# Altium integrated library NSC Switcher.IntLib: 2027 symbols (part 54 of 54)
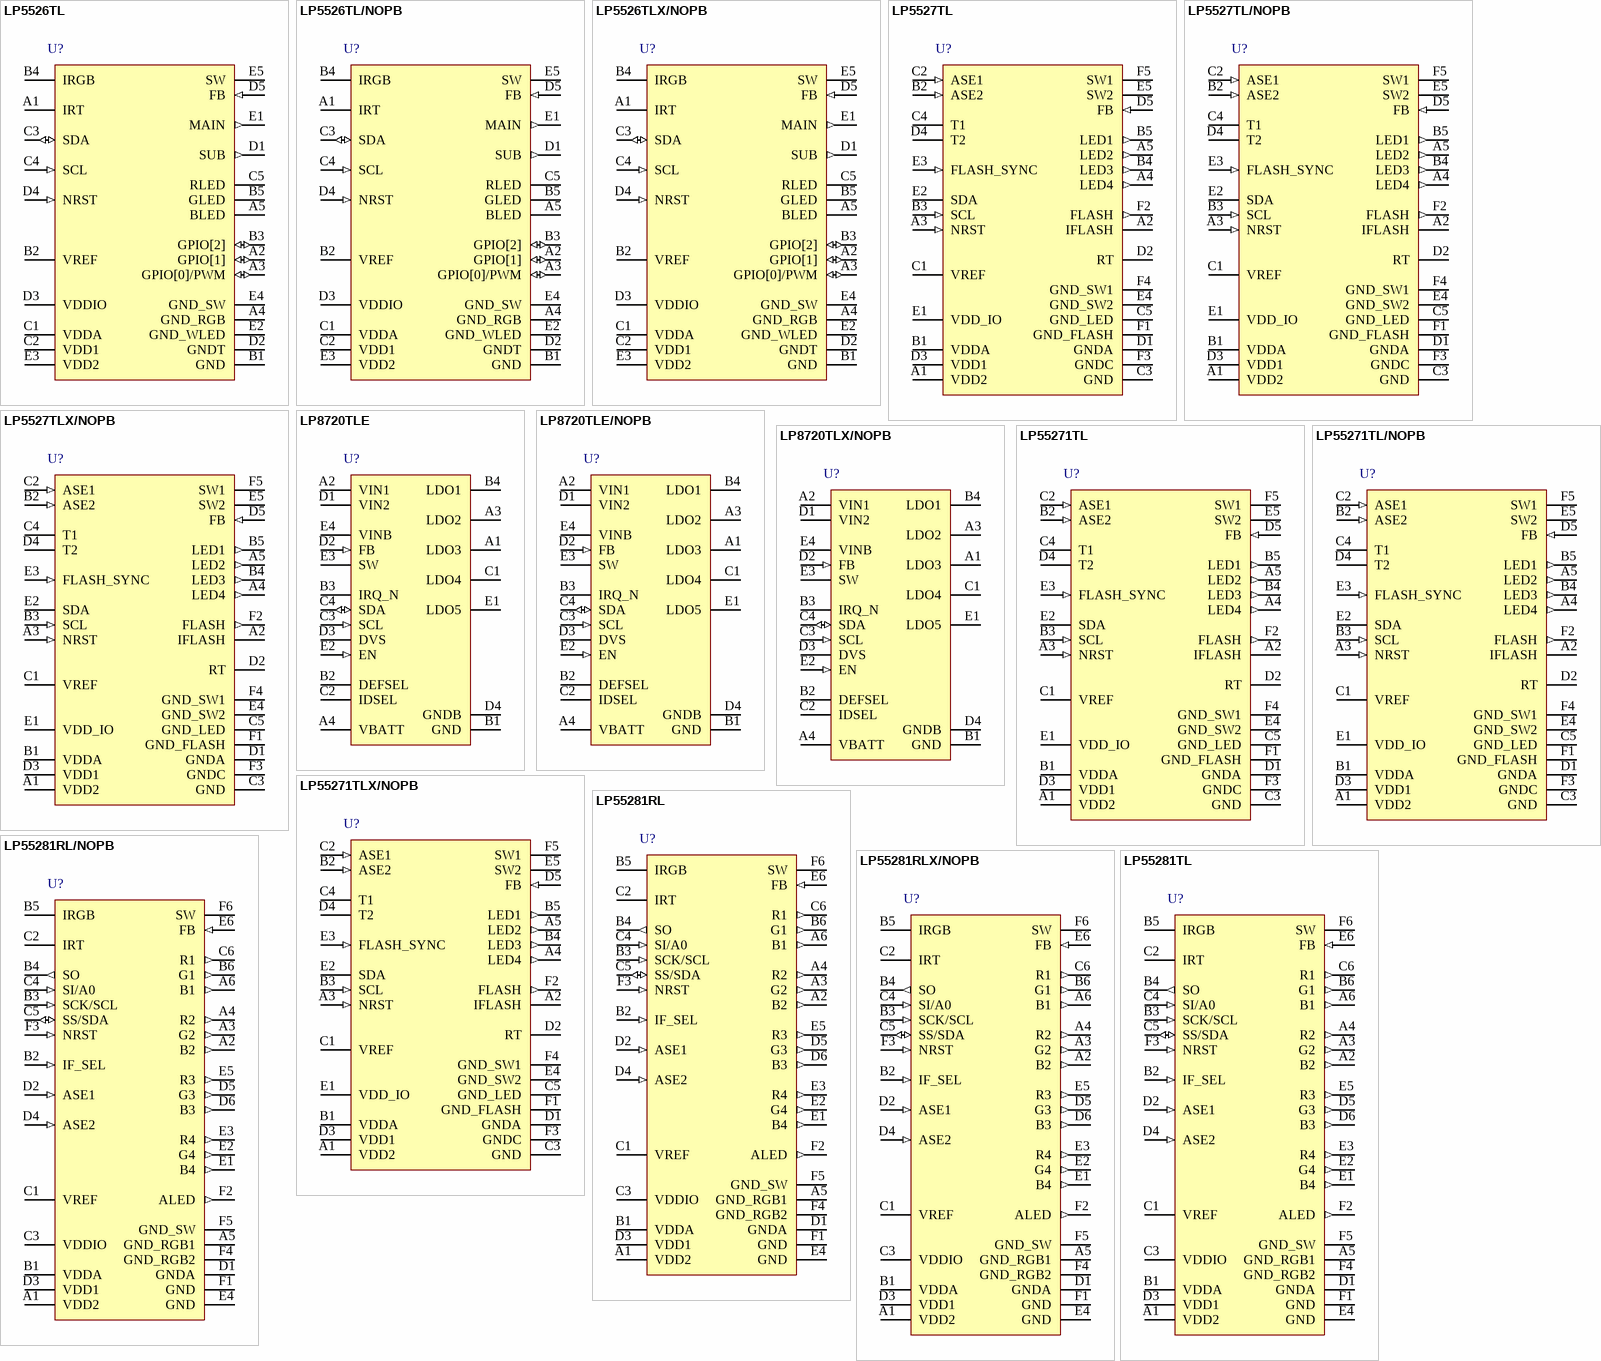
[diagram p116: symbols LP5526TL to LP55281TL]

## LP5526TLX/NOPB
designator U?
Lighting Management Unit with High Voltage Boost Converter with up to 150mA Serial FLASH LED Driver, 25-pin Micro SMD, Pb-Free; PartNumber: LP5526TLX/NOPB; Manufacturer: National Semiconductor; PackageTopMarking: XYTT*I 5526; PowerWise: Y; CompType: Switcher; Published: 1-Mar-2010; DatasheetVersion: Mar-2006; PackageVersion: revD, Dec-2003; PackageReference: TLA25CCA; Publisher: Altium Limited; PackageDescription: Thin Micro SMD, 25 Bump (Large), 0.5mm Pitch; Supplier 1: Digi-Key; Supplier Part Number 1: LP5526TLX-ND; RoHS: Y; PinCount: 25; Code_JEDEC: MO-211-DH; ComponentLink1Description: LP5526 Datasheet; ComponentLink1URL: http://www.national.com/ds/LP/LP5526.pdf; ComponentLink2Description: LP5526 Web Page; ComponentLink2URL: http://www.national.com/pf/LP/LP5526.html; ComponentLink3Description: TLA25CCA Package Page; ComponentLink3URL: http://www.national.com/packaging/folders/tla25cca.html
footprint TLA25CCA (Micro SMD, 25-Leads, Body 2.54x2.54mm, Pitch 0.5mm, NSC Recommended)
pins: A1 IRT, A2 GPIO[1] (io), A3 GPIO[0]/PWM (io), A4 GND_RGB (power), A5 BLED (oc), B1 GND (power), B2 VREF, B3 GPIO[2] (io), B4 IRGB, B5 GLED (oc), C1 VDDA (power), C2 VDD1 (power), C3 SDA (io), C4 SCL (in), C5 RLED (oc), D1 SUB (out), D2 GNDT (power), D3 VDDIO (power), D4 NRST (in), D5 FB (in), E1 MAIN (out), E2 GND_WLED (power), E3 VDD2 (power), E4 GND_SW (power), E5 SW (power)

## LP5527TL
designator U?
Tiny LED Driver for Camera Flash and 4 LEDs with I2C Programmability, Connectivity Test and Audio Synchronization, 30-pin Micro SMD; PartNumber: LP5527TL; Manufacturer: National Semiconductor; PackageTopMarking: XYTT*I 5527; PowerWise: Y; CompType: Switcher; Published: 4-Dec-2008; DatasheetVersion: May-2006; PackageVersion: revC, Dec-2003; PackageReference: TLA3011A; Publisher: Altium Limited; PackageDescription: Thin Micro SMD, 30 Bump (Large), 0.5mm Pitch; Supplier 1: Farnell; Supplier Part Number 1: 1286806; RoHS: Y; PinCount: 30; Code_JEDEC: MO-211-DJ; ComponentLink1Description: LP5527 Datasheet; ComponentLink1URL: http://www.national.com/ds/LP/LP5527.pdf; ComponentLink2Description: LP5527 Web Page; ComponentLink2URL: http://www.national.com/pf/LP/LP5527.html; ComponentLink3Description: TLA3011A Package Page; ComponentLink3URL: http://www.national.com/packaging/folders/tla3011a.html
footprint TLA3011A (Micro SMD, 30-Leads, Body 2.97x2.47mm, Pitch 0.5mm, NSC Recommended)
pins: A1 VDD2 (power), A2 IFLASH, A3 NRST (in), A4 LED4 (out), A5 LED2 (out), B1 VDDA (power), B2 ASE2 (in), B3 SCL (in), B4 LED3 (out), B5 LED1 (out), C1 VREF, C2 ASE1 (in), C3 GND (power), C4 T1, C5 GND_LED (power), D1 GNDA (power), D2 RT, D3 VDD1 (power), D4 T2, D5 FB (in), E1 VDD_IO (power), E2 SDA (oc), E3 FLASH_SYNC (in), E4 GND_SW2 (power), E5 SW2 (power), F1 GND_FLASH (power), F2 FLASH (out), F3 GNDC (power), F4 GND_SW1 (power), F5 SW1 (power)

## LP5527TL/NOPB
designator U?
Tiny LED Driver for Camera Flash and 4 LEDs with I2C Programmability, Connectivity Test and Audio Synchronization, 30-pin Micro SMD, Pb-Free; PartNumber: LP5527TL/NOPB; Manufacturer: National Semiconductor; PackageTopMarking: XYTT*I 5527; PowerWise: Y; CompType: Switcher; Published: 1-Mar-2010; DatasheetVersion: May-2006; PackageVersion: revC, Dec-2003; PackageReference: TLA3011A; Publisher: Altium Limited; PackageDescription: Thin Micro SMD, 30 Bump (Large), 0.5mm Pitch; Supplier 1: Digi-Key; Supplier Part Number 1: LP5527TLTR-ND; Supplier 2: Digi-Key; Supplier Part Number 2: LP5527TLCT-ND; Supplier 3: Digi-Key; Supplier Part Number 3: LP5527TLDKR-ND; RoHS: Y; PinCount: 30; Code_JEDEC: MO-211-DJ; ComponentLink1Description: LP5527 Datasheet; ComponentLink1URL: http://www.national.com/ds/LP/LP5527.pdf; ComponentLink2Description: LP5527 Web Page; ComponentLink2URL: http://www.national.com/pf/LP/LP5527.html; ComponentLink3Description: TLA3011A Package Page; ComponentLink3URL: http://www.national.com/packaging/folders/tla3011a.html
footprint TLA3011A (Micro SMD, 30-Leads, Body 2.97x2.47mm, Pitch 0.5mm, NSC Recommended)
pins: A1 VDD2 (power), A2 IFLASH, A3 NRST (in), A4 LED4 (out), A5 LED2 (out), B1 VDDA (power), B2 ASE2 (in), B3 SCL (in), B4 LED3 (out), B5 LED1 (out), C1 VREF, C2 ASE1 (in), C3 GND (power), C4 T1, C5 GND_LED (power), D1 GNDA (power), D2 RT, D3 VDD1 (power), D4 T2, D5 FB (in), E1 VDD_IO (power), E2 SDA (oc), E3 FLASH_SYNC (in), E4 GND_SW2 (power), E5 SW2 (power), F1 GND_FLASH (power), F2 FLASH (out), F3 GNDC (power), F4 GND_SW1 (power), F5 SW1 (power)

## LP5527TLX/NOPB
designator U?
Tiny LED Driver for Camera Flash and 4 LEDs with I2C Programmability, Connectivity Test and Audio Synchronization, 30-pin Micro SMD, Pb-Free; PartNumber: LP5527TLX/NOPB; Manufacturer: National Semiconductor; PackageTopMarking: XYTT*I 5527; PowerWise: Y; CompType: Switcher; Published: 1-Mar-2010; DatasheetVersion: May-2006; PackageVersion: revC, Dec-2003; PackageReference: TLA3011A; Publisher: Altium Limited; PackageDescription: Thin Micro SMD, 30 Bump (Large), 0.5mm Pitch; Supplier 1: Digi-Key; Supplier Part Number 1: LP5527TLX-ND; RoHS: Y; PinCount: 30; Code_JEDEC: MO-211-DJ; ComponentLink1Description: LP5527 Datasheet; ComponentLink1URL: http://www.national.com/ds/LP/LP5527.pdf; ComponentLink2Description: LP5527 Web Page; ComponentLink2URL: http://www.national.com/pf/LP/LP5527.html; ComponentLink3Description: TLA3011A Package Page; ComponentLink3URL: http://www.national.com/packaging/folders/tla3011a.html
footprint TLA3011A (Micro SMD, 30-Leads, Body 2.97x2.47mm, Pitch 0.5mm, NSC Recommended)
pins: A1 VDD2 (power), A2 IFLASH, A3 NRST (in), A4 LED4 (out), A5 LED2 (out), B1 VDDA (power), B2 ASE2 (in), B3 SCL (in), B4 LED3 (out), B5 LED1 (out), C1 VREF, C2 ASE1 (in), C3 GND (power), C4 T1, C5 GND_LED (power), D1 GNDA (power), D2 RT, D3 VDD1 (power), D4 T2, D5 FB (in), E1 VDD_IO (power), E2 SDA (oc), E3 FLASH_SYNC (in), E4 GND_SW2 (power), E5 SW2 (power), F1 GND_FLASH (power), F2 FLASH (out), F3 GNDC (power), F4 GND_SW1 (power), F5 SW1 (power)

## LP8720TLE
designator U?
One Step-Down DC/DC and Five Linear Regulators with I2C Compatible Interface, 20-pin Micro SMD; PartNumber: LP8720TLE; Manufacturer: National Semiconductor; PackageTopMarking: XYTT*I 8720; PowerWise: N; CompType: Switcher; Published: 4-Dec-2008; DatasheetVersion: Jul-2008; PackageVersion: revC, Jan-2004; PackageReference: TLA2011A; Publisher: Altium Limited; PackageDescription: Thin Micro SMD, 20 Bump (Large), 0.5mm Pitch; RoHS: Y; PinCount: 20; Code_JEDEC: MO-211-DG; ComponentLink1Description: LP8720 Datasheet; ComponentLink1URL: http://www.national.com/ds/LP/LP8720.pdf; ComponentLink2Description: LP8720 Web Page; ComponentLink2URL: http://www.national.com/pf/LP/LP8720.html; ComponentLink3Description: TLA2011A Package Page; ComponentLink3URL: http://www.national.com/packaging/folders/tla2011a.html
footprint TLA2011A (Micro SMD, 20-Leads, Body 2.47x1.97mm, Pitch 0.5mm, NSC Recommended)
pins: A1 LDO3 (power), A2 VIN1 (power), A3 LDO2 (power), A4 VBATT (power), B1 GND (power), B2 DEFSEL, B3 IRQ_N, B4 LDO1 (power), C1 LDO4 (power), C2 IDSEL, C3 SCL (in), C4 SDA (io), D1 VIN2 (power), D2 FB (in), D3 DVS, D4 GNDB (power), E1 LDO5 (power), E2 EN (in), E3 SW (power), E4 VINB (power)

## LP8720TLE/NOPB
designator U?
One Step-Down DC/DC and Five Linear Regulators with I2C Compatible Interface, 20-pin Micro SMD, Pb-Free; PartNumber: LP8720TLE/NOPB; Manufacturer: National Semiconductor; PackageTopMarking: XYTT*I 8720; PowerWise: N; CompType: Switcher; Published: 1-Mar-2010; DatasheetVersion: Jul-2008; PackageVersion: revC, Jan-2004; PackageReference: TLA2011A; Publisher: Altium Limited; PackageDescription: Thin Micro SMD, 20 Bump (Large), 0.5mm Pitch; Supplier 1: Digi-Key; Supplier Part Number 1: LP8720TLETR-ND; Supplier 2: Digi-Key; Supplier Part Number 2: LP8720TLECT-ND; Supplier 3: Digi-Key; Supplier Part Number 3: LP8720TLEDKR-ND; RoHS: Y; PinCount: 20; Code_JEDEC: MO-211-DG; ComponentLink1Description: LP8720 Datasheet; ComponentLink1URL: http://www.national.com/ds/LP/LP8720.pdf; ComponentLink2Description: LP8720 Web Page; ComponentLink2URL: http://www.national.com/pf/LP/LP8720.html; ComponentLink3Description: TLA2011A Package Page; ComponentLink3URL: http://www.national.com/packaging/folders/tla2011a.html
footprint TLA2011A (Micro SMD, 20-Leads, Body 2.47x1.97mm, Pitch 0.5mm, NSC Recommended)
pins: A1 LDO3 (power), A2 VIN1 (power), A3 LDO2 (power), A4 VBATT (power), B1 GND (power), B2 DEFSEL, B3 IRQ_N, B4 LDO1 (power), C1 LDO4 (power), C2 IDSEL, C3 SCL (in), C4 SDA (io), D1 VIN2 (power), D2 FB (in), D3 DVS, D4 GNDB (power), E1 LDO5 (power), E2 EN (in), E3 SW (power), E4 VINB (power)

## LP8720TLX/NOPB
designator U?
One Step-Down DC/DC and Five Linear Regulators with I2C Compatible Interface, 20-pin Micro SMD, Pb-Free; PartNumber: LP8720TLX/NOPB; Manufacturer: National Semiconductor; PackageTopMarking: XYTT*I 8720; PowerWise: N; CompType: Switcher; Published: 1-Mar-2010; DatasheetVersion: Jul-2008; PackageVersion: revC, Jan-2004; PackageReference: TLA2011A; Publisher: Altium Limited; PackageDescription: Thin Micro SMD, 20 Bump (Large), 0.5mm Pitch; Supplier 1: Digi-Key; Supplier Part Number 1: LP8720TLX-ND; RoHS: Y; PinCount: 20; Code_JEDEC: MO-211-DG; ComponentLink1Description: LP8720 Datasheet; ComponentLink1URL: http://www.national.com/ds/LP/LP8720.pdf; ComponentLink2Description: LP8720 Web Page; ComponentLink2URL: http://www.national.com/pf/LP/LP8720.html; ComponentLink3Description: TLA2011A Package Page; ComponentLink3URL: http://www.national.com/packaging/folders/tla2011a.html
footprint TLA2011A (Micro SMD, 20-Leads, Body 2.47x1.97mm, Pitch 0.5mm, NSC Recommended)
pins: A1 LDO3 (power), A2 VIN1 (power), A3 LDO2 (power), A4 VBATT (power), B1 GND (power), B2 DEFSEL, B3 IRQ_N, B4 LDO1 (power), C1 LDO4 (power), C2 IDSEL, C3 SCL (in), C4 SDA (io), D1 VIN2 (power), D2 FB (in), D3 DVS, D4 GNDB (power), E1 LDO5 (power), E2 EN (in), E3 SW (power), E4 VINB (power)

## LP55271TL
designator U?
Tiny LED Driver for Camera Flash and 4 LEDs with I2C Programmability, Connectivity Test and Audio Synchronization, 30-pin Micro SMD; PartNumber: LP55271TL; Manufacturer: National Semiconductor; PackageTopMarking: XYTT*I D55B; PowerWise: Y; CompType: Switcher; Published: 4-Dec-2008; DatasheetVersion: Sep-2006; PackageVersion: revC, Dec-2003; PackageReference: TLA3011A; Publisher: Altium Limited; PackageDescription: Thin Micro SMD, 30 Bump (Large), 0.5mm Pitch; RoHS: Y; PinCount: 30; Code_JEDEC: MO-211-DJ; ComponentLink1Description: LP55271 Datasheet; ComponentLink1URL: http://www.national.com/ds/LP/LP55271.pdf; ComponentLink2Description: LP55271 Web Page; ComponentLink2URL: http://www.national.com/pf/LP/LP55271.html; ComponentLink3Description: TLA3011A Package Page; ComponentLink3URL: http://www.national.com/packaging/folders/tla3011a.html
footprint TLA3011A (Micro SMD, 30-Leads, Body 2.97x2.47mm, Pitch 0.5mm, NSC Recommended)
pins: A1 VDD2 (power), A2 IFLASH, A3 NRST (in), A4 LED4 (out), A5 LED2 (out), B1 VDDA (power), B2 ASE2 (in), B3 SCL (in), B4 LED3 (out), B5 LED1 (out), C1 VREF, C2 ASE1 (in), C3 GND (power), C4 T1, C5 GND_LED (power), D1 GNDA (power), D2 RT, D3 VDD1 (power), D4 T2, D5 FB (in), E1 VDD_IO (power), E2 SDA (oc), E3 FLASH_SYNC (in), E4 GND_SW2 (power), E5 SW2 (power), F1 GND_FLASH (power), F2 FLASH (out), F3 GNDC (power), F4 GND_SW1 (power), F5 SW1 (power)

## LP55271TL/NOPB
designator U?
Tiny LED Driver for Camera Flash and 4 LEDs with I2C Programmability, Connectivity Test and Audio Synchronization, 30-pin Micro SMD, Pb-Free; PartNumber: LP55271TL/NOPB; Manufacturer: National Semiconductor; PackageTopMarking: XYTT*I D55B; PowerWise: Y; CompType: Switcher; Published: 1-Mar-2010; DatasheetVersion: Sep-2006; PackageVersion: revC, Dec-2003; PackageReference: TLA3011A; Publisher: Altium Limited; PackageDescription: Thin Micro SMD, 30 Bump (Large), 0.5mm Pitch; Supplier 1: Digi-Key; Supplier Part Number 1: LP55271TLTR-ND; Supplier 2: Digi-Key; Supplier Part Number 2: LP55271TLCT-ND; Supplier 3: Digi-Key; Supplier Part Number 3: LP55271TLDKR-ND; RoHS: Y; PinCount: 30; Code_JEDEC: MO-211-DJ; ComponentLink1Description: LP55271 Datasheet; ComponentLink1URL: http://www.national.com/ds/LP/LP55271.pdf; ComponentLink2Description: LP55271 Web Page; ComponentLink2URL: http://www.national.com/pf/LP/LP55271.html; ComponentLink3Description: TLA3011A Package Page; ComponentLink3URL: http://www.national.com/packaging/folders/tla3011a.html
footprint TLA3011A (Micro SMD, 30-Leads, Body 2.97x2.47mm, Pitch 0.5mm, NSC Recommended)
pins: A1 VDD2 (power), A2 IFLASH, A3 NRST (in), A4 LED4 (out), A5 LED2 (out), B1 VDDA (power), B2 ASE2 (in), B3 SCL (in), B4 LED3 (out), B5 LED1 (out), C1 VREF, C2 ASE1 (in), C3 GND (power), C4 T1, C5 GND_LED (power), D1 GNDA (power), D2 RT, D3 VDD1 (power), D4 T2, D5 FB (in), E1 VDD_IO (power), E2 SDA (oc), E3 FLASH_SYNC (in), E4 GND_SW2 (power), E5 SW2 (power), F1 GND_FLASH (power), F2 FLASH (out), F3 GNDC (power), F4 GND_SW1 (power), F5 SW1 (power)

## LP55271TLX/NOPB
designator U?
Tiny LED Driver for Camera Flash and 4 LEDs with I2C Programmability, Connectivity Test and Audio Synchronization, 30-pin Micro SMD, Pb-Free; PartNumber: LP55271TLX/NOPB; Manufacturer: National Semiconductor; PackageTopMarking: XYTT*I D55B; PowerWise: Y; CompType: Switcher; Published: 1-Mar-2010; DatasheetVersion: Sep-2006; PackageVersion: revC, Dec-2003; PackageReference: TLA3011A; Publisher: Altium Limited; PackageDescription: Thin Micro SMD, 30 Bump (Large), 0.5mm Pitch; Supplier 1: Digi-Key; Supplier Part Number 1: LP55271TLX-ND; RoHS: Y; PinCount: 30; Code_JEDEC: MO-211-DJ; ComponentLink1Description: LP55271 Datasheet; ComponentLink1URL: http://www.national.com/ds/LP/LP55271.pdf; ComponentLink2Description: LP55271 Web Page; ComponentLink2URL: http://www.national.com/pf/LP/LP55271.html; ComponentLink3Description: TLA3011A Package Page; ComponentLink3URL: http://www.national.com/packaging/folders/tla3011a.html
footprint TLA3011A (Micro SMD, 30-Leads, Body 2.97x2.47mm, Pitch 0.5mm, NSC Recommended)
pins: A1 VDD2 (power), A2 IFLASH, A3 NRST (in), A4 LED4 (out), A5 LED2 (out), B1 VDDA (power), B2 ASE2 (in), B3 SCL (in), B4 LED3 (out), B5 LED1 (out), C1 VREF, C2 ASE1 (in), C3 GND (power), C4 T1, C5 GND_LED (power), D1 GNDA (power), D2 RT, D3 VDD1 (power), D4 T2, D5 FB (in), E1 VDD_IO (power), E2 SDA (oc), E3 FLASH_SYNC (in), E4 GND_SW2 (power), E5 SW2 (power), F1 GND_FLASH (power), F2 FLASH (out), F3 GNDC (power), F4 GND_SW1 (power), F5 SW1 (power)

## LP55281RL
designator U?
Quad RGB Driver, 36-pin Micro SMDXT; PartNumber: LP55281RL; Manufacturer: National Semiconductor; PackageTopMarking: XYTT*I D61B; PowerWise: Y; CompType: Switcher; Published: 4-Dec-2008; DatasheetVersion: Jun-2007; PackageVersion: Aug-2007; PackageReference: RLA36AAA; Publisher: Altium Limited; PackageDescription: Micro SMDxt, 36 Bump (Large), 0.5mm Pitch; RoHS: Y; PinCount: 36; ComponentLink1Description: LP55281 Datasheet; ComponentLink1URL: http://www.national.com/ds/LP/LP55281.pdf; ComponentLink2Description: LP55281 Web Page; ComponentLink2URL: http://www.national.com/pf/LP/LP55281.html
footprint RLA36AAA (Micro SMD, 36-Leads, Body 3x3mm, Pitch 0.5mm, NSC Recommended)
pins: A1 VDD2 (power), A2 B2 (out), A3 G2 (out), A4 R2 (out), A5 GND_RGB1 (power), A6 B1 (out), B1 VDDA (power), B2 IF_SEL (in), B3 SCK/SCL (in), B4 SO (out), B5 IRGB, B6 G1 (out), C1 VREF, C2 IRT, C3 VDDIO (power), C4 SI/A0 (in), C5 SS/SDA (io), C6 R1 (out), D1 GNDA (power), D2 ASE1 (in), D3 VDD1 (power), D4 ASE2 (in), D5 G3 (out), D6 B3 (out), E1 B4 (out), E2 G4 (out), E3 R4 (out), E4 GND (power), E5 R3 (out), E6 FB (in), F1 GND (power), F2 ALED (out), F3 NRST (in), F4 GND_RGB2 (power), F5 GND_SW (power), F6 SW (power)

## LP55281RL/NOPB
designator U?
Quad RGB Driver, 36-pin Micro SMDXT, Pb-Free; PartNumber: LP55281RL/NOPB; Manufacturer: National Semiconductor; PackageTopMarking: XYTT*I D61B; PowerWise: Y; CompType: Switcher; Published: 1-Mar-2010; DatasheetVersion: Jun-2007; PackageVersion: Aug-2007; PackageReference: RLA36AAA; Publisher: Altium Limited; PackageDescription: Micro SMDxt, 36 Bump (Large), 0.5mm Pitch; Supplier 1: Digi-Key; Supplier Part Number 1: LP55281RLTR-ND; Supplier 2: Digi-Key; Supplier Part Number 2: LP55281RLCT-ND; Supplier 3: Digi-Key; Supplier Part Number 3: LP55281RLDKR-ND; RoHS: Y; PinCount: 36; ComponentLink1Description: LP55281 Datasheet; ComponentLink1URL: http://www.national.com/ds/LP/LP55281.pdf; ComponentLink2Description: LP55281 Web Page; ComponentLink2URL: http://www.national.com/pf/LP/LP55281.html; ComponentLink3Description: RLA36AAA Package Page; ComponentLink3URL: http://www.national.com/packaging/folders/rla36aaa.html
footprint RLA36AAA (Micro SMD, 36-Leads, Body 3x3mm, Pitch 0.5mm, NSC Recommended)
pins: A1 VDD2 (power), A2 B2 (out), A3 G2 (out), A4 R2 (out), A5 GND_RGB1 (power), A6 B1 (out), B1 VDDA (power), B2 IF_SEL (in), B3 SCK/SCL (in), B4 SO (out), B5 IRGB, B6 G1 (out), C1 VREF, C2 IRT, C3 VDDIO (power), C4 SI/A0 (in), C5 SS/SDA (io), C6 R1 (out), D1 GNDA (power), D2 ASE1 (in), D3 VDD1 (power), D4 ASE2 (in), D5 G3 (out), D6 B3 (out), E1 B4 (out), E2 G4 (out), E3 R4 (out), E4 GND (power), E5 R3 (out), E6 FB (in), F1 GND (power), F2 ALED (out), F3 NRST (in), F4 GND_RGB2 (power), F5 GND_SW (power), F6 SW (power)

## LP55281RLX/NOPB
designator U?
Quad RGB Driver, 36-pin Micro SMDXT, Pb-Free; PartNumber: LP55281RLX/NOPB; Manufacturer: National Semiconductor; PackageTopMarking: XYTT*I D61B; PowerWise: Y; CompType: Switcher; Published: 1-Mar-2010; DatasheetVersion: Jun-2007; PackageVersion: Aug-2007; PackageReference: RLA36AAA; Publisher: Altium Limited; PackageDescription: Micro SMDxt, 36 Bump (Large), 0.5mm Pitch; Supplier 1: Digi-Key; Supplier Part Number 1: LP55281RLX-ND; RoHS: Y; PinCount: 36; ComponentLink1Description: LP55281 Datasheet; ComponentLink1URL: http://www.national.com/ds/LP/LP55281.pdf; ComponentLink2Description: LP55281 Web Page; ComponentLink2URL: http://www.national.com/pf/LP/LP55281.html; ComponentLink3Description: RLA36AAA Package Page; ComponentLink3URL: http://www.national.com/packaging/folders/rla36aaa.html
footprint RLA36AAA (Micro SMD, 36-Leads, Body 3x3mm, Pitch 0.5mm, NSC Recommended)
pins: A1 VDD2 (power), A2 B2 (out), A3 G2 (out), A4 R2 (out), A5 GND_RGB1 (power), A6 B1 (out), B1 VDDA (power), B2 IF_SEL (in), B3 SCK/SCL (in), B4 SO (out), B5 IRGB, B6 G1 (out), C1 VREF, C2 IRT, C3 VDDIO (power), C4 SI/A0 (in), C5 SS/SDA (io), C6 R1 (out), D1 GNDA (power), D2 ASE1 (in), D3 VDD1 (power), D4 ASE2 (in), D5 G3 (out), D6 B3 (out), E1 B4 (out), E2 G4 (out), E3 R4 (out), E4 GND (power), E5 R3 (out), E6 FB (in), F1 GND (power), F2 ALED (out), F3 NRST (in), F4 GND_RGB2 (power), F5 GND_SW (power), F6 SW (power)

## LP55281TL
designator U?
Quad RGB Driver, 36-pin Micro SMD; PartNumber: LP55281TL; Manufacturer: National Semiconductor; PackageTopMarking: XYTT*I D56B; PowerWise: Y; CompType: Switcher; Published: 4-Dec-2008; DatasheetVersion: Jun-2007; PackageVersion: revC, Dec-2003; PackageReference: TLA36AAA; Publisher: Altium Limited; PackageDescription: Thin Micro SMD, 36 Bump (Large), 0.5mm Pitch; RoHS: Y; PinCount: 36; Code_JEDEC: MO-211-DK; ComponentLink1Description: LP55281 Datasheet; ComponentLink1URL: http://www.national.com/ds/LP/LP55281.pdf; ComponentLink2Description: LP55281 Web Page; ComponentLink2URL: http://www.national.com/pf/LP/LP55281.html; ComponentLink3Description: TLA36AAA Package Page; ComponentLink3URL: http://www.national.com/packaging/folders/tla36aaa.html
footprint TLA36AAA (Micro SMD, 36-Leads, Body 3x3mm, Pitch 0.5mm, NSC Recommended)
pins: A1 VDD2 (power), A2 B2 (out), A3 G2 (out), A4 R2 (out), A5 GND_RGB1 (power), A6 B1 (out), B1 VDDA (power), B2 IF_SEL (in), B3 SCK/SCL (in), B4 SO (out), B5 IRGB, B6 G1 (out), C1 VREF, C2 IRT, C3 VDDIO (power), C4 SI/A0 (in), C5 SS/SDA (io), C6 R1 (out), D1 GNDA (power), D2 ASE1 (in), D3 VDD1 (power), D4 ASE2 (in), D5 G3 (out), D6 B3 (out), E1 B4 (out), E2 G4 (out), E3 R4 (out), E4 GND (power), E5 R3 (out), E6 FB (in), F1 GND (power), F2 ALED (out), F3 NRST (in), F4 GND_RGB2 (power), F5 GND_SW (power), F6 SW (power)

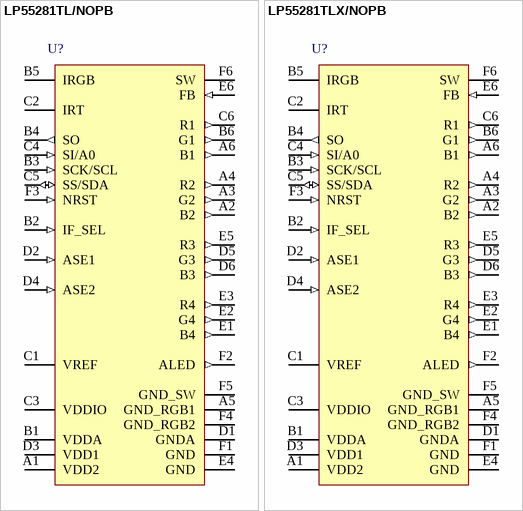
[diagram p63: symbols LP55281TL/NOPB to LP55281TLX/NOPB]

## LP55281TL/NOPB
designator U?
Quad RGB Driver, 36-pin Micro SMD, Pb-Free; PartNumber: LP55281TL/NOPB; Manufacturer: National Semiconductor; PackageTopMarking: XYTT*I D56B; PowerWise: Y; CompType: Switcher; Published: 1-Mar-2010; DatasheetVersion: Jun-2007; PackageVersion: revC, Dec-2003; PackageReference: TLA36AAA; Publisher: Altium Limited; PackageDescription: Thin Micro SMD, 36 Bump (Large), 0.5mm Pitch; Supplier 1: Digi-Key; Supplier Part Number 1: LP55281TLTR-ND; Supplier 2: Digi-Key; Supplier Part Number 2: LP55281TLCT-ND; Supplier 3: Digi-Key; Supplier Part Number 3: LP55281TLDKR-ND; RoHS: Y; PinCount: 36; Code_JEDEC: MO-211-DK; ComponentLink1Description: LP55281 Datasheet; ComponentLink1URL: http://www.national.com/ds/LP/LP55281.pdf; ComponentLink2Description: LP55281 Web Page; ComponentLink2URL: http://www.national.com/pf/LP/LP55281.html; ComponentLink3Description: TLA36AAA Package Page; ComponentLink3URL: http://www.national.com/packaging/folders/tla36aaa.html
footprint TLA36AAA (Micro SMD, 36-Leads, Body 3x3mm, Pitch 0.5mm, NSC Recommended)
pins: A1 VDD2 (power), A2 B2 (out), A3 G2 (out), A4 R2 (out), A5 GND_RGB1 (power), A6 B1 (out), B1 VDDA (power), B2 IF_SEL (in), B3 SCK/SCL (in), B4 SO (out), B5 IRGB, B6 G1 (out), C1 VREF, C2 IRT, C3 VDDIO (power), C4 SI/A0 (in), C5 SS/SDA (io), C6 R1 (out), D1 GNDA (power), D2 ASE1 (in), D3 VDD1 (power), D4 ASE2 (in), D5 G3 (out), D6 B3 (out), E1 B4 (out), E2 G4 (out), E3 R4 (out), E4 GND (power), E5 R3 (out), E6 FB (in), F1 GND (power), F2 ALED (out), F3 NRST (in), F4 GND_RGB2 (power), F5 GND_SW (power), F6 SW (power)

## LP55281TLX/NOPB
designator U?
Quad RGB Driver, 36-pin Micro SMD, Pb-Free; PartNumber: LP55281TLX/NOPB; Manufacturer: National Semiconductor; PackageTopMarking: XYTT*I D56B; PowerWise: Y; CompType: Switcher; Published: 1-Mar-2010; DatasheetVersion: Jun-2007; PackageVersion: revC, Dec-2003; PackageReference: TLA36AAA; Publisher: Altium Limited; PackageDescription: Thin Micro SMD, 36 Bump (Large), 0.5mm Pitch; Supplier 1: Digi-Key; Supplier Part Number 1: LP55281TLX-ND; RoHS: Y; PinCount: 36; Code_JEDEC: MO-211-DK; ComponentLink1Description: LP55281 Datasheet; ComponentLink1URL: http://www.national.com/ds/LP/LP55281.pdf; ComponentLink2Description: LP55281 Web Page; ComponentLink2URL: http://www.national.com/pf/LP/LP55281.html; ComponentLink3Description: TLA36AAA Package Page; ComponentLink3URL: http://www.national.com/packaging/folders/tla36aaa.html
footprint TLA36AAA (Micro SMD, 36-Leads, Body 3x3mm, Pitch 0.5mm, NSC Recommended)
pins: A1 VDD2 (power), A2 B2 (out), A3 G2 (out), A4 R2 (out), A5 GND_RGB1 (power), A6 B1 (out), B1 VDDA (power), B2 IF_SEL (in), B3 SCK/SCL (in), B4 SO (out), B5 IRGB, B6 G1 (out), C1 VREF, C2 IRT, C3 VDDIO (power), C4 SI/A0 (in), C5 SS/SDA (io), C6 R1 (out), D1 GNDA (power), D2 ASE1 (in), D3 VDD1 (power), D4 ASE2 (in), D5 G3 (out), D6 B3 (out), E1 B4 (out), E2 G4 (out), E3 R4 (out), E4 GND (power), E5 R3 (out), E6 FB (in), F1 GND (power), F2 ALED (out), F3 NRST (in), F4 GND_RGB2 (power), F5 GND_SW (power), F6 SW (power)